# Altium schematic symbol library B3B-PH-SM4-TB(LF)(SN).SchLib: 1 symbol
Pins are listed as number, name and electrical type; pins without a type are passive.

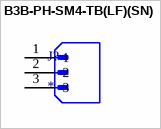
[diagram p0: symbol B3B-PH-SM4-TB(LF)(SN)]

## B3B-PH-SM4-TB(LF)(SN)
designator J?
Connector Header Surface Mount 3 position 0.079 (2.00mm); MF: JST Sales; MP: B3B-PH-SM4-TB(LF)(SN); Package: NON STANDARD-3 JST; Price: None; Value: *; SnapEDA_Link: https://www.snapeda.com/parts/B3B-PH-SM4-TB(LF)(SN)/JST+Sales+America+Inc./view-part/?ref=snap; Availability: In Stock; Check_prices: https://www.snapeda.com/parts/B3B-PH-SM4-TB(LF)(SN)/JST+Sales+America+Inc./view-part/?ref=eda
footprint JST_B3B-PH-SM4-TB(LF)(SN)
pins: 1, 2, 3